# Altium schematic symbol library hearing_aid.SchLib: 33 symbols
Pins are listed as number, name and electrical type; pins without a type are passive.

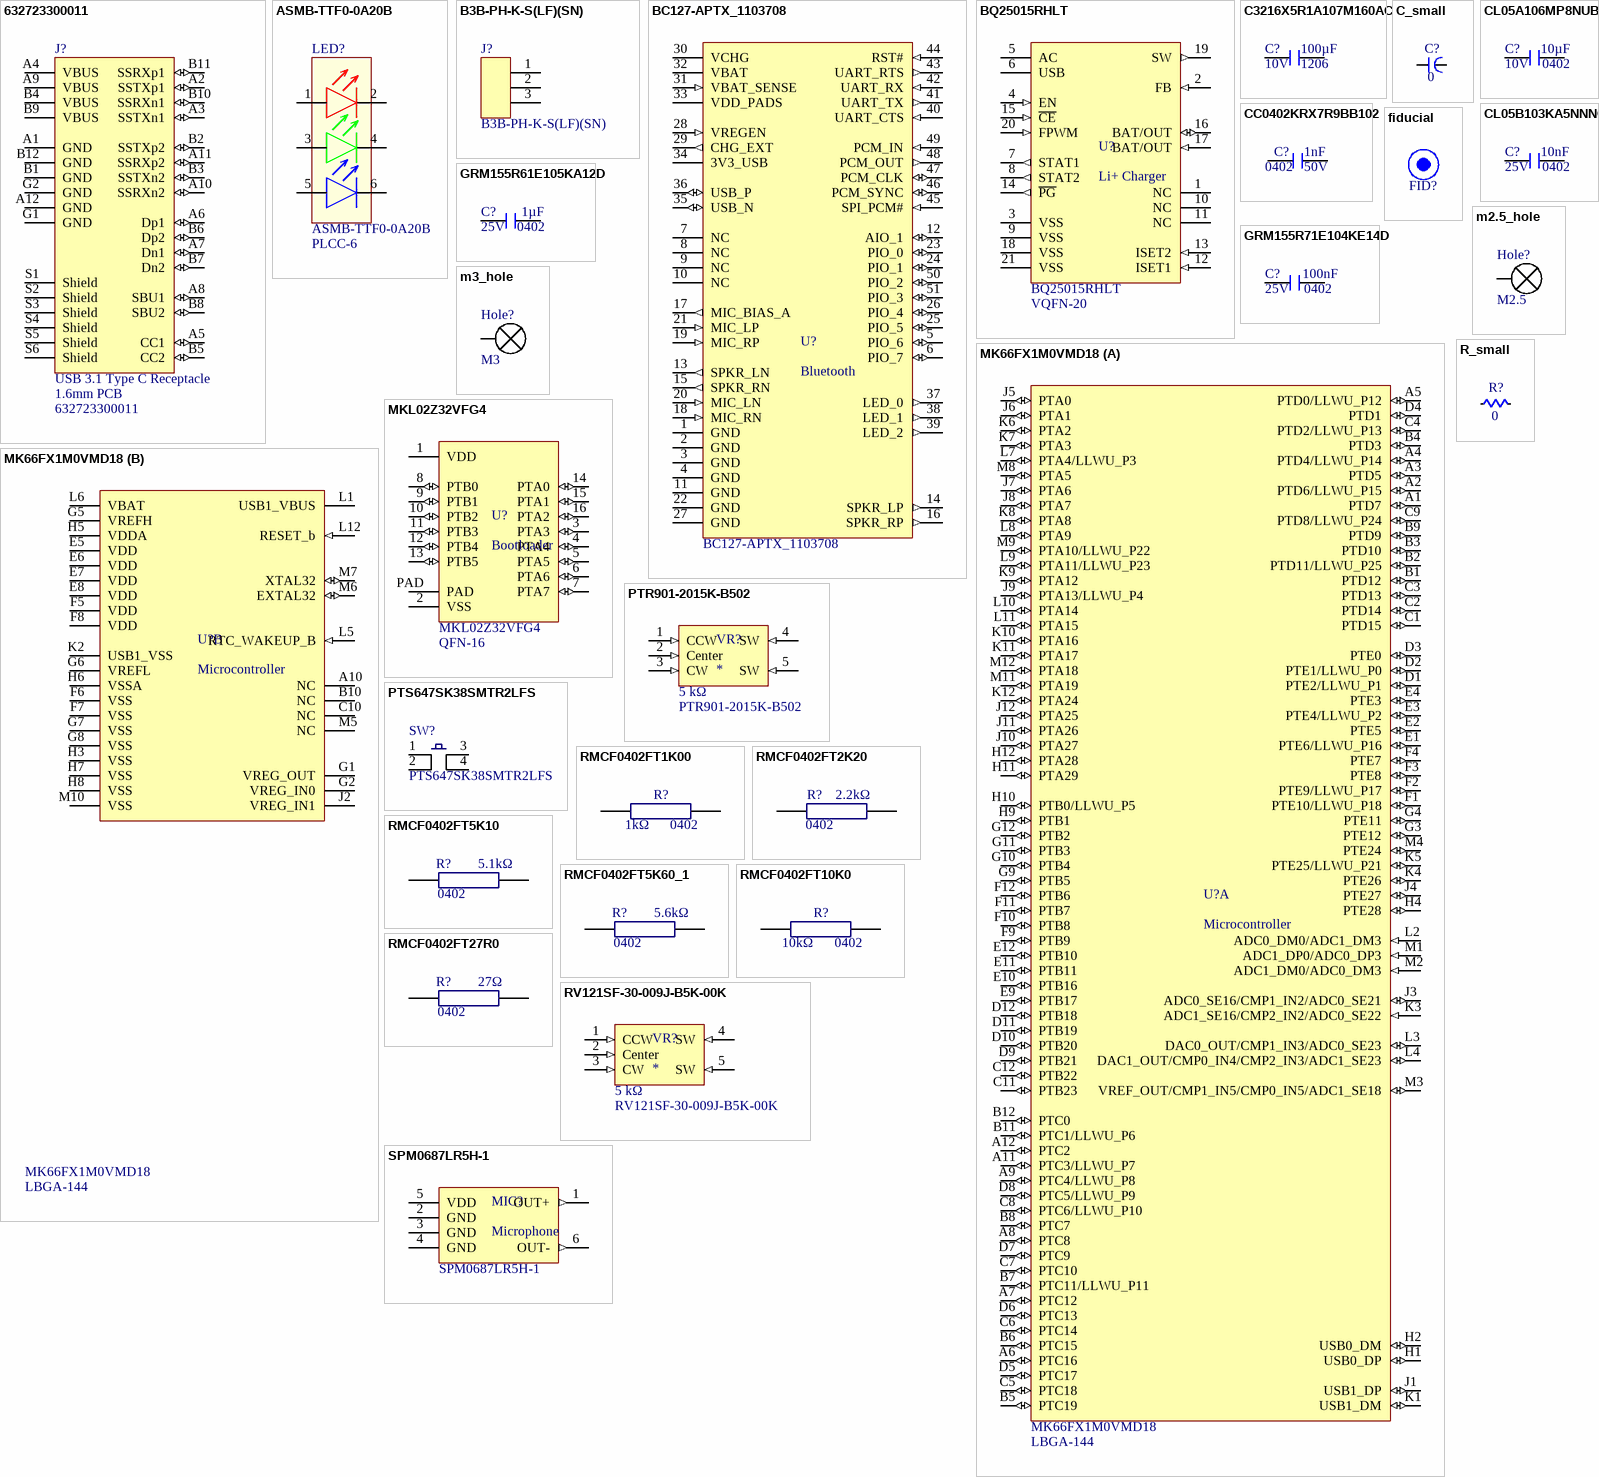
[diagram p0: symbols 632723300011 to SPM0687LR5H-1]

## 632723300011
designator J?, comment USB 3.1 Type C Receptacle  PCB Thickness: 1.6mm PCB  Manufacturer Part Number: 632723300011
USB-C jack; Manufacturer: Wurth Electronics; Number of Contacts: 24; Supplier 1: Digi-Key; Stock 1: 18753; Pricing 1: 1=4.1, 10=3.8, 50=3.2, 100=2.95 (USD); Mount: Surface Mount,Through Hole; Packaging: Tape and Reel; Connector Type: USB; Gender: Receptacle; ComponentLink1URL: https://www.mouser.com/ds/2/445/632723x00011-782157.pdf?src-supplier=Mouser; ComponentLink1Description: https://www.mouser.com/ds/2/445/632723x00011-782157.pdf?src-supplier=Mouser; ComponentLink2URL: https://katalog.we-online.de/em/datasheet/632723x00011.pdf?src-supplier=Digi-Key; ComponentLink2Description: https://katalog.we-online.de/em/datasheet/632723x00011.pdf?src-supplier=Digi-Key; Supplier Part Number 1: 732-9618-1-ND
footprint 632723300011 (USB 3.1 Type C Receptacle Horizontal THR)
pins: A1 GND (power), A2 SSTXp1 (io), A3 SSTXn1 (io), A4 VBUS (power), A5 CC1 (io), A6 Dp1 (io), A7 Dn1 (io), A8 SBU1 (io), A9 VBUS (power), A10 SSRXn2 (io), A11 SSRXp2 (io), A12 GND (power), B1 GND (power), B2 SSTXp2 (io), B3 SSTXn2 (io), B4 VBUS (power), B5 CC2 (io), B6 Dp2 (io), B7 Dn2 (io), B8 SBU2 (io), B9 VBUS (power), B10 SSRXn1 (io), B11 SSRXp1 (io), B12 GND (power), G1 GND (power), G2 GND (power), S1 Shield, S2 Shield, S3 Shield, S4 Shield, S5 Shield, S6 Shield

## ASMB-TTF0-0A20B
designator LED?  Manufacturer Part Number: ASMB-TTF0-0A20B  Case/Package: PLCC-6  (hidden comment: *)
RGB LED; Manufacturer: Broadcom Avago; Color: Blue,Green,Red; Lens Style: Round,Flat; Lens Transparency: Diffused; Luminous Intensity: 410mcd; Forward Voltage: 2.9V; Test Current: 20mA; Viewing Angle: 110°; Dominant Wavelength: 471nm; Supplier 1: Digi-Key; RoHS: Yes; Category: LEDs; Stock 1: 27651; Pricing 1: 1=0.55000, 10=0.33900, 100=0.19500, 1000=0.15264 (USD); Mount: Surface Mount; Number of Pins: 6; Packaging: Cut Tape; Length: 3.7mm; Width: 3.5mm; Height: 3mm; RoHS Compliant: Yes; ComponentLink1URL: https://media.digikey.com/pdf/Data%20Sheets/Avago%20PDFs/ASMB-TTF0-0A20B.pdf?src-supplier=Digi-Key; ComponentLink1Description: https://media.digikey.com/pdf/Data%20Sheets/Avago%20PDFs/ASMB-TTF0-0A20B.pdf?src-supplier=Digi-Key; ComponentLink2URL: http://www.farnell.com/datasheets/2608170.pdf?src-supplier=Farnell; ComponentLink2Description: http://www.farnell.com/datasheets/2608170.pdf?src-supplier=Farnell; ComponentLink3URL: http://www.farnell.com/datasheets/2608170.pdf?src-supplier=Newark; ComponentLink3Description: http://www.farnell.com/datasheets/2608170.pdf?src-supplier=Newark; Supplier Part Number 1: 516-3908-1-ND; Supplier 2: Digi-Key; Supplier Part Number 2: 516-3909-1-ND
footprint PLCC-6
pins: 1, 2, 3, 4, 5, 6

## B3B-PH-K-S(LF)(SN)
designator J?  Manufacturer Part Number: B3B-PH-K-S(LF)(SN)  (hidden comment: *)
3-Pin, 2 mm, PH Series through-hole connector; Manufacturer: JST; Supplier 1: Digi-Key; Supplier Part Number 1: 455-1705-ND; RoHS: Yes; Category: Headers and Wire Housings; Stock 1: 26216; Pricing 1: 1=0.19000, 10=0.18200, 100=0.12620, 500=0.10676, 1000=0.08736, 5000=0.07765, 10000=0.07037 (USD); ComponentLink1URL: https://datasheet.ciiva.com/11746/0900766b80826550-11746939.pdf?src-supplier=RSComponents; ComponentLink1Description: https://datasheet.ciiva.com/11746/0900766b80826550-11746939.pdf?src-supplier=RSComponents; ComponentLink2URL: https://datasheet.ciiva.com/6747/80560-6747401.pdf?src-supplier=Newark; ComponentLink2Description: https://datasheet.ciiva.com/6747/80560-6747401.pdf?src-supplier=Newark; ComponentLink3URL: https://datasheet.ciiva.com/712/eph-712455.pdf?src-supplier=Digi-Key; ComponentLink3Description: https://datasheet.ciiva.com/712/eph-712455.pdf?src-supplier=Digi-Key; ComponentLink4URL: https://datasheet.ciiva.com/16200/eph-16200926.pdf?src-supplier=Future+Electronics; ComponentLink4Description: https://datasheet.ciiva.com/16200/eph-16200926.pdf?src-supplier=Future+Electronics; ComponentLink5URL: https://datasheet.ciiva.com/26894/getdatasheetpartid-448114-26894774.pdf?src-supplier=Verical; ComponentLink5Description: https://datasheet.ciiva.com/26894/getdatasheetpartid-448114-26894774.pdf?src-supplier=Verical; ComponentLink6URL: https://datasheet.ciiva.com/26924/getdatasheetpartid-651387-26924028.pdf?src-supplier=Verical; ComponentLink6Description: https://datasheet.ciiva.com/26924/getdatasheetpartid-651387-26924028.pdf?src-supplier=Verical; ComponentLink7URL: https://datasheet.ciiva.com/43491/741202-da-01-en-stiftleiste-gerade-3-pol-rm2-0-43491962.pdf?src-supplier=Conrad; ComponentLink7Description: https://datasheet.ciiva.com/43491/741202-da-01-en-stiftleiste-gerade-3-pol-rm2-0-43491962.pdf?src-supplier=Conrad
footprint B3B-PH-K-S(LF)(SN) (JST connector)
pins: 1, 2, 3

## BC127-APTX_1103708
designator U?, comment Bluetooth  Manufacturer Part Number: BC127-APTX_1103708
Bluetooth 4.2 Module with Integrated Antenna; Manufacturer: Sierra Wireless; Supplier 1: Digi-Key; Stock 1: 1671; Pricing 1: 1=35.82, 10=33.066, 25=30.3104, 100=28.0142, 250=26.6365, 500=25.05 (USD); Supplier Part Number 1: 1645-1042-1-ND
footprint BC127 (LGA, 51-Leads, Body 18x11.8mm, Pitch 0.8mm)
pins: 1 GND (power), 2 GND (power), 3 GND (power), 4 GND (power), 5 PIO_6 (io), 6 PIO_7 (io), 7 NC, 8 NC, 9 NC, 10 NC, 11 GND (power), 12 AIO_1 (io), 13 SPKR_LN (out), 14 SPKR_LP (out), 15 SPKR_RN (out), 16 SPKR_RP (out), 17 MIC_BIAS_A (out), 18 MIC_RN (in), 19 MIC_RP (in), 20 MIC_LN (in), 21 MIC_LP (in), 22 GND (power), 23 PIO_0 (io), 24 PIO_1 (io), 25 PIO_5 (io), 26 PIO_4 (io), 27 GND (power), 28 VREGEN (in), 29 CHG_EXT (out), 30 VCHG (power), 31 VBAT_SENSE (in), 32 VBAT (power), 33 VDD_PADS (power), 34 3V3_USB (power), 35 USB_N (io), 36 USB_P (io), 37 LED_0 (out), 38 LED_1 (out), 39 LED_2 (out), 40 UART_CTS (in), 41 UART_TX (out), 42 UART_RX (in), 43 UART_RTS (out), 44 RST# (in), 45 SPI_PCM# (in), 46 PCM_SYNC (io), 47 PCM_CLK (io), 48 PCM_OUT (out), 49 PCM_IN (in), 50 PIO_2 (io), 51 PIO_3 (io)

## BQ25015RHLT
designator U?, comment Li+ Charger  Manufacturer Part Number: BQ25015RHLT  Package: VQFN-20
Li+ Battery Chager, VQFN-20; Manufacturer: Texas Instruments; Output Voltage: 700mV; Output Current: 500mA; Number of Cells: 1; Max Supply Voltage: 6.5V; Min Supply Voltage: 4.35V; Min Input Voltage: 4.5V; Switching Frequency: 1MHz; Supplier 1: Digi-Key; Stock 1: 62; Pricing 1: 1=4.78, 10=4.289, 25=4.0544, 100=3.5139 (USD); Case/Package: VQFN; Number of Pins: 20; Weight: 0.001668oz; Contact Plating: Gold; Min Operating Temperature: -40°C; Max Operating Temperature: 125°C; Package Quantity: 1; Series: -; Packaging: Tape and Reel; Max Output Current: 500mA; Max Charge Current: 500mA; Length: 4.5mm; Width: 3.5mm; Height: 0.9mm; Radiation Hardening: No; REACH SVHC: No SVHC; Lead Free: Lead Free; RoHS Compliant: Yes; ComponentLink1URL: http://www.ti.com/lit/ds/symlink/bq25017.pdf?src-supplier=Farnell; ComponentLink1Description: http://www.ti.com/lit/ds/symlink/bq25017.pdf?src-supplier=Farnell; ComponentLink2URL: http://www.ti.com/lit/ds/symlink/bq25017.pdf?src-supplier=Element14; ComponentLink2Description: http://www.ti.com/lit/ds/symlink/bq25017.pdf?src-supplier=Element14; ComponentLink3URL: http://www.ti.com/general/docs/suppproductinfo.tsp?distId=10&amp;gotoUrl=http%3A%2F%2Fwww.ti.com%2Flit%2Fgpn%2Fbq25015&src-supplier=Digi-Key; ComponentLink3Description: http://www.ti.com/general/docs/suppproductinfo.tsp?distId=10&amp;gotoUrl=http%3A%2F%2Fwww.ti.com%2Flit%2Fgpn%2Fbq25015&src-supplier=Digi-Key; ComponentLink4URL: https://media.digikey.com/pdf/Data%20Sheets/Texas%20Instruments%20PDFs/BQ25015,17.pdf?src-supplier=Digi-Key; ComponentLink4Description: https://media.digikey.com/pdf/Data%20Sheets/Texas%20Instruments%20PDFs/BQ25015,17.pdf?src-supplier=Digi-Key; ComponentLink5URL: http://www.ti.com/lit/gpn/bq25015?src-supplier=Mouser; ComponentLink5Description: http://www.ti.com/lit/gpn/bq25015?src-supplier=Mouser; ComponentLink6URL: http://www.ti.com/general/docs/lit/getliterature.tsp?genericPartNumber=BQ25017&&fileType=pdf&src-supplier=Avnet; ComponentLink6Description: http://www.ti.com/general/docs/lit/getliterature.tsp?genericPartNumber=BQ25017&&fileType=pdf&src-supplier=Avnet; Supplier Part Number 1: 296-32034-1-ND
footprint VQFN-20 (VQFN, 24-Leads, Body 3.50x4.50mm, Pitch 0.50mm, Thermal Pad 2.05x3.05mm, IPC Medium Density)
pins: 1 NC, 2 FB (in), 3 VSS (power), 4 EN (in), 5 AC (power), 6 USB (power), 7 STAT1 (out), 8 STAT2 (out), 9 VSS (power), 10 NC, 11 NC, 12 ISET1 (in), 13 ISET2 (in), 14 ~{PG} (out), 15 ~{CE} (in), 16 BAT/OUT (io), 17 BAT/OUT (in), 18 VSS (power), 19 SW (out), 20 FPWM (in), 21 VSS (power)

## C3216X5R1A107M160AC
designator C?  Case Code (Imperial): 1206  Capacitance: 100µF  Voltage: 10V  (hidden comment: *)
100 µF, 10 V, X5R, 1206 Chip capacitor; Manufacturer: TDK; Manufacturer Part Number: C3216X5R1A107M160AC; Dielectric Material: Ceramic; Tolerance: 20%; Supplier 1: Digi-Key; Supplier Part Number 1: 445-6007-1-ND; RoHS: Yes; Category: Ceramic Capacitors; Stock 1: 313539; Pricing 1: 1=1.35000, 10=1.07000, 50=0.92700, 100=0.80210, 500=0.60606, 1000=0.53476 (USD); Mount: Surface Mount; Case/Package: 1206; Case Code (Metric): 3216; Weight: 0.000571oz; Min Operating Temperature: -55°C; Max Operating Temperature: 85°C; Packaging: Tape and Reel; Package Quantity: 1; Voltage Rating: 10V; Voltage Rating (DC): 10V; Dielectric: X5R; Termination: SMD/SMT; Resistor Type: Ceramic; Series: C; Construction: Flat; Length: 3.2mm; Width: 1.6mm; Height: 1.6mm; Thickness: 0.075inch; Depth: 1.6mm; Radiation Hardening: No; REACH SVHC: No SVHC; Lead Free: Lead Free; RoHS Compliant: Yes; ComponentLink1URL: https://datasheet.ciiva.com/24216/c3216x5r1a107m160ac-265050-24216592.pdf?src-supplier=Mouser; ComponentLink1Description: https://datasheet.ciiva.com/24216/c3216x5r1a107m160ac-265050-24216592.pdf?src-supplier=Mouser; ComponentLink2URL: https://datasheet.ciiva.com/7975/1796654-7975125.pdf?src-supplier=Element14; ComponentLink2Description: https://datasheet.ciiva.com/7975/1796654-7975125.pdf?src-supplier=Element14; ComponentLink3URL: https://datasheet.ciiva.com/16482/e412-c-16482549.pdf?src-supplier=Future+Electronics; ComponentLink3Description: https://datasheet.ciiva.com/16482/e412-c-16482549.pdf?src-supplier=Future+Electronics; ComponentLink4URL: https://datasheet.ciiva.com/48671/e412-c-48671366.pdf?src-supplier=Avnet; ComponentLink4Description: https://datasheet.ciiva.com/48671/e412-c-48671366.pdf?src-supplier=Avnet; ComponentLink5URL: https://datasheet.ciiva.com/6284/tdkmlcccaprange-6284584.pdf?src-supplier=Digi-Key; ComponentLink5Description: https://datasheet.ciiva.com/6284/tdkmlcccaprange-6284584.pdf?src-supplier=Digi-Key; ComponentLink6URL: https://datasheet.ciiva.com/6284/tdkmlcccaprange-6284586.pdf?src-supplier=Digi-Key; ComponentLink6Description: https://datasheet.ciiva.com/6284/tdkmlcccaprange-6284586.pdf?src-supplier=Digi-Key; ComponentLink7URL: https://datasheet.ciiva.com/17487/e412-c-17487274.pdf?src-supplier=Avnet+Europe; ComponentLink7Description: https://datasheet.ciiva.com/17487/e412-c-17487274.pdf?src-supplier=Avnet+Europe; ComponentLink8URL: https://datasheet.ciiva.com/28620/mlcc-commercial-general-en-28620362.pdf?src-supplier=Element14; ComponentLink8Description: https://datasheet.ciiva.com/28620/mlcc-commercial-general-en-28620362.pdf?src-supplier=Element14; ComponentLink9URL: https://datasheet.ciiva.com/22725/1913358-22725579.pdf?src-supplier=Element14; ComponentLink9Description: https://datasheet.ciiva.com/22725/1913358-22725579.pdf?src-supplier=Element14; ComponentLink10URL: https://datasheet.ciiva.com/6284/tdkmlcccaprange-6284588.pdf?src-supplier=Digi-Key; ComponentLink10Description: https://datasheet.ciiva.com/6284/tdkmlcccaprange-6284588.pdf?src-supplier=Digi-Key; ComponentLink11URL: https://datasheet.ciiva.com/22694/1796654-22694157.pdf?src-supplier=Element14; ComponentLink11Description: https://datasheet.ciiva.com/22694/1796654-22694157.pdf?src-supplier=Element14
footprint 1206_capacitor (Chip Capacitor, 2-Leads, Body 3.20x1.60mm, IPC Medium Density)
pins: 1, 2

## C_small
designator C?  value 0  (hidden comment: *)
pins: 1, 2

## CC0402KRX7R9BB102
designator C?  Case/Package: 0402  Capacitance: 1nF  Voltage Rating: 50V  (hidden comment: *)
1 nF, 50 V, X7R, 0402 Chip capacitor; Manufacturer: Yageo; Manufacturer Part Number: CC0402KRX7R9BB102; Dielectric Material: Ceramic; Tolerance: 10%; Insulation Resistance: 100GR; Supplier 1: Digi-Key; Stock 1: 1726463; Pricing 1: 1=0.1, 10=0.019, 50=0.0104, 100=0.0085, 500=0.006, 1000=0.0048, 2500=0.0043, 5000=0.004 (USD); Mount: Surface Mount; Case Code (Metric): 1005; Case Code (Imperial): 0402; Min Operating Temperature: -55°C; Max Operating Temperature: 125°C; Packaging: Tape and Reel; Series: CC; Length: 0.039inch; Width: 0.02inch; Thickness: 0.022inch; RoHS Compliant: Yes; Lead Free: Lead Free; Halogen Free: Halogen Free; ComponentLink1URL: http://www.farnell.com/datasheets/1489800.pdf?src-supplier=Element14; ComponentLink1Description: http://www.farnell.com/datasheets/1489800.pdf?src-supplier=Element14; ComponentLink2URL: http://www.yageo.com/documents/recent/UPY-GPHC_X7R_6.3V-to-50V_18.pdf?src-supplier=Digi-Key; ComponentLink2Description: http://www.yageo.com/documents/recent/UPY-GPHC_X7R_6.3V-to-50V_18.pdf?src-supplier=Digi-Key; ComponentLink3URL: http://www.mouser.com/ds/2/447/Yageo_UPY-GP_NP0_16V-to-50V_9-358835.pdf?src-supplier=Mouser; ComponentLink3Description: http://www.mouser.com/ds/2/447/Yageo_UPY-GP_NP0_16V-to-50V_9-358835.pdf?src-supplier=Mouser; ComponentLink4URL: https://www.verical.com/server-webapp/html/getDatasheet?partID=403474&src-supplier=Verical; ComponentLink4Description: https://www.verical.com/server-webapp/html/getDatasheet?partID=403474&src-supplier=Verical; ComponentLink5URL: http://www.yageo.com/documents/recent/UPY-GPHC_X7R_6.3V-to-50V_8.pdf?src-supplier=Avnet+Europe; ComponentLink5Description: http://www.yageo.com/documents/recent/UPY-GPHC_X7R_6.3V-to-50V_8.pdf?src-supplier=Avnet+Europe; Supplier Part Number 1: 311-1036-1-ND
footprint 0402_capacitor (0402 chip capacitor)
pins: 1, 2

## CL05A106MP8NUB8
designator C?  Capacitance: 10µF  Voltage Rating: 10V  Case Code (Imperial): 0402  (hidden comment: *)
10 µF, 10 V, X5R, 0402 Chip capacitor; Manufacturer: Samsung; Manufacturer Part Number: CL05A106MP8NUB8; Tolerance: 20%; Supplier 1: Digi-Key; Supplier Part Number 1: 1276-6830-1-ND; RoHS: Yes; Category: Ceramic Capacitors; Stock 1: 740658; Pricing 1: 1=0.36000, 10=0.25300, 50=0.17720, 100=0.15180, 500=0.11384, 1000=0.09614, 2500=0.09108 (USD); Mount: Surface Mount; Case/Package: 0402; Case Code (Metric): 1005; Min Operating Temperature: -55°C; Max Operating Temperature: 85°C; Packaging: Tape and Reel; Length: 0.039inch; Width: 0.02inch; Thickness: 0.035inch; RoHS Compliant: Yes; ComponentLink1URL: http://www.samsungsem.com/kr/support/product-search/mlcc/CL05A106MP8NUB8.jsp?src-supplier=Digi-Key; ComponentLink1Description: http://www.samsungsem.com/kr/support/product-search/mlcc/CL05A106MP8NUB8.jsp?src-supplier=Digi-Key
footprint 0402_capacitor (0402 chip capacitor)
pins: 1, 2

## CL05B103KA5NNNC
designator C?  Capacitance: 10nF  Voltage Rating: 25V  Case Code (Imperial): 0402  (hidden comment: *)
10 nF, 25 V, X7R, 0402 Chip capacitor; Manufacturer: Samsung; Manufacturer Part Number: CL05B103KA5NNNC; Tolerance: 10%; Supplier 1: Digi-Key; Supplier Part Number 1: 1276-1057-2-ND; RoHS: Yes; Category: Ceramic Capacitors; Stock 1: 2318300; Pricing 1: 10000=0.00328, 20000=0.00312, 30000=0.00297, 50000=0.00266, 100000=0.00215, 250000=0.00195 (USD); Mount: Surface Mount; Case/Package: 0402; Case Code (Metric): 1005; Contact Plating: Tin; Min Operating Temperature: -55°C; Max Operating Temperature: 125°C; Packaging: Tape and Reel; Package Quantity: 1; Dielectric: X7R; Series: CL; Construction: Flat; Length: 1mm; Width: 0.02inch; Height: 0.5mm; Thickness: 0.022inch; Depth: 0.5mm; Radiation Hardening: No; RoHS Compliant: Yes; ComponentLink1URL: https://datasheet.ciiva.com/15195/getdatasheetpartid-358612-15195635.pdf?src-supplier=Verical; ComponentLink1Description: https://datasheet.ciiva.com/15195/getdatasheetpartid-358612-15195635.pdf?src-supplier=Verical; ComponentLink2URL: https://datasheet.ciiva.com/16740/cl05b104kq5nnnc-16740683.pdf?src-supplier=Future+Electronics; ComponentLink2Description: https://datasheet.ciiva.com/16740/cl05b104kq5nnnc-16740683.pdf?src-supplier=Future+Electronics
footprint 0402_capacitor (0402 chip capacitor)
pins: 1, 2

## fiducial
designator FID?, comment FID?  (value not drawn)  (no BOM)
Pick and place fiducial
footprint fiducial

## GRM155R61E105KA12D
designator C?  Size Code: 0402  Capacitance: 1µF  Voltage: 25V  (hidden comment: *)
1 µF, 25 V, X5R, 0402 Chip capacitor; Manufacturer: Murata; Manufacturer Part Number: GRM155R61E105KA12D; Dielectric Material: Ceramic; Multilayer: Yes; Negative Tolerance: 10%; Supplier 1: Digi-Key; Supplier Part Number 1: 490-10017-1-ND; RoHS: Yes; Category: Ceramic Capacitors; Stock 1: 145965; Pricing 1: 1=0.11000, 10=0.08300, 50=0.04560, 100=0.03720, 500=0.02656, 1000=0.02087, 2500=0.01898, 5000=0.01746 (USD); Mount: Surface Mount; Number of Pins: 2; Package Shape: Rectangular; Terminal Finish: Nickel; Min Operating Temperature: -55°C; Max Operating Temperature: 85°C; JESD-609 Code: e3; Capacitor Type: Ceramic; Package Style: SMTMeter; Packaging: Tape and Reel; Positive Tolerance: 10%; Temperature Characteristics Code: X5R; Termination: Wraparound; Length: 1mm; Width: 0.5mm; Height: 0.5mm; REACH SVHC: Yes; RoHS Compliant: Yes; ComponentLink1URL: https://datasheet.ciiva.com:443/pdfs/VipMasterIC/IC/MURE/MURE-S-A0004362469/MURE-S-A0004364524-1.pdf?src-supplier=IHS+Markit; ComponentLink1Description: https://datasheet.ciiva.com:443/pdfs/VipMasterIC/IC/MURE/MURE-S-A0004362469/MURE-S-A0004364524-1.pdf?src-supplier=IHS+Markit; ComponentLink2URL: https://datasheet.ciiva.com/7719/1666664-7719006.pdf?src-supplier=Element14; ComponentLink2Description: https://datasheet.ciiva.com/7719/1666664-7719006.pdf?src-supplier=Element14; ComponentLink3URL: https://datasheet.ciiva.com/22732/1666664-22732122.pdf?src-supplier=Element14; ComponentLink3Description: https://datasheet.ciiva.com/22732/1666664-22732122.pdf?src-supplier=Element14
footprint 0402_capacitor (0402 chip capacitor)
pins: 1, 2

## GRM155R71E104KE14D
designator C?  Case Code (Imperial): 0402  Voltage: 25V  Capacitance: 100nF  (hidden comment: *)
100 nF, 25 V, X7R, 0402 Chip capacitor; Manufacturer: Murata; Manufacturer Part Number: GRM155R71E104KE14D; Dielectric Material: Ceramic; Tolerance: 10%; Supplier 1: Digi-Key; Supplier Part Number 1: 490-10698-1-ND; RoHS: Yes; Category: Ceramic Capacitors; Pricing 1: 1=0.10000, 10=0.02700, 50=0.01460, 100=0.01190, 500=0.00848, 1000=0.00666, 2500=0.00605, 5000=0.00557 (USD); Mount: Surface Mount; Case/Package: 0402; Case Code (Metric): 1005; Weight: 0.000212oz; Min Operating Temperature: -55°C; Max Operating Temperature: 125°C; Packaging: Tape and Reel; Voltage Rating: 25V; Dielectric: X7R; Termination: SMD/SMT; Resistor Type: Ceramic; Voltage Rating (DC): 25V; Package Quantity: 10000; Length: 1mm; Width: 0.02inch; Height: 0.5mm; Thickness: 0.022inch; Depth: 0.5mm; REACH SVHC: Unknown; Lead Free: Lead Free; RoHS Compliant: Yes; ComponentLink1URL: http://www.farnell.com/datasheets/1872206.pdf?src-supplier=Farnell; ComponentLink1Description: http://www.farnell.com/datasheets/1872206.pdf?src-supplier=Farnell; ComponentLink2URL: http://components.arrow.com/part/dataview/0323_06361249?src-supplier=Arrow+Europe; ComponentLink2Description: http://components.arrow.com/part/dataview/0323_06361249?src-supplier=Arrow+Europe; ComponentLink3URL: http://uk.rs-online.com/webdocs/144c/0900766b8144c113.pdf?src-supplier=RSComponents; ComponentLink3Description: http://uk.rs-online.com/webdocs/144c/0900766b8144c113.pdf?src-supplier=RSComponents; ComponentLink4URL: http://www.farnell.com/datasheets/2048008.pdf?src-supplier=Farnell; ComponentLink4Description: http://www.farnell.com/datasheets/2048008.pdf?src-supplier=Farnell; ComponentLink5URL: http://www.mouser.com/ds/2/281/c02e-2905.pdf?src-supplier=Mouser; ComponentLink5Description: http://www.mouser.com/ds/2/281/c02e-2905.pdf?src-supplier=Mouser; ComponentLink6URL: http://www.farnell.com/datasheets/2048008.pdf?src-supplier=Newark; ComponentLink6Description: http://www.farnell.com/datasheets/2048008.pdf?src-supplier=Newark; ComponentLink7URL: https://search.murata.co.jp/Ceramy/image/img/A01X/G101/ENG/GRM155R71E104KE14-01.pdf?src-supplier=Digi-Key; ComponentLink7Description: https://search.murata.co.jp/Ceramy/image/img/A01X/G101/ENG/GRM155R71E104KE14-01.pdf?src-supplier=Digi-Key; ComponentLink8URL: http://www.farnell.com/datasheets/2048008.pdf?src-supplier=Element14; ComponentLink8Description: http://www.farnell.com/datasheets/2048008.pdf?src-supplier=Element14; ComponentLink9URL: http://psearch.en.murata.com/capacitor/product/GRM155R71E104KE14%23.pdf?src-supplier=Avnet; ComponentLink9Description: http://psearch.en.murata.com/capacitor/product/GRM155R71E104KE14%23.pdf?src-supplier=Avnet
footprint 0402_capacitor (0402 chip capacitor)
pins: 1, 2

## m2.5_hole
designator Hole?, comment M2.5  (no BOM)
M2.5 clearance hole
footprint m2.5_hole (M2.5 hole, with via stitching)
pins: 1

## m3_hole
designator Hole?, comment M3  (no BOM)
M3 clearance hole
footprint m3_hole (M3 hole, with via stitching)
pins: 1

## MK66FX1M0VMD18
designator U?, comment Microcontroller  Manufacturer Part Number: MK66FX1M0VMD18  Package: LBGA-144
ARM Cortex-M4 microcontroller; Manufacturer: NXP Freescale; Supplier 1: Digi-Key; Stock 1: 0; Pricing 1: 1=23.34, 10=23.108 (USD); RoHS Compliant: Yes; ComponentLink1URL: http://www.mouser.com/ds/2/302/K66P144M180SF5V2-907544.pdf?src-supplier=Mouser; ComponentLink1Description: http://www.mouser.com/ds/2/302/K66P144M180SF5V2-907544.pdf?src-supplier=Mouser; ComponentLink2URL: https://www.nxp.com/docs/en/package-information/98ASA00222D.pdf?src-supplier=Digi-Key; ComponentLink2Description: https://www.nxp.com/docs/en/package-information/98ASA00222D.pdf?src-supplier=Digi-Key; ComponentLink3URL: http://www.farnell.com/datasheets/2292635.pdf?src-supplier=Farnell; ComponentLink3Description: http://www.farnell.com/datasheets/2292635.pdf?src-supplier=Farnell; ComponentLink4URL: http://www.farnell.com/datasheets/2292635.pdf?src-supplier=Newark; ComponentLink4Description: http://www.farnell.com/datasheets/2292635.pdf?src-supplier=Newark; Supplier Part Number 1: 568-13335-ND
footprint BGA-144 (BGA, 144-Leads, Body 13.00x13.00mmx1.70mm, Pitch 1.00mm)
part A pins: A1 PTD7 (io), A2 PTD6/LLWU_P15 (io), A3 PTD5 (io), A4 PTD4/LLWU_P14 (io), A5 PTD0/LLWU_P12 (io), A6 PTC16 (io), A7 PTC12 (io), A8 PTC8 (io), A9 PTC4/LLWU_P8 (io), A11 PTC3/LLWU_P7 (io), A12 PTC2 (io), B1 PTD12 (io), B2 PTD11/LLWU_P25 (io), B3 PTD10 (io), B4 PTD3 (io), B5 PTC19 (io), B6 PTC15 (io), B7 PTC11/LLWU_P11 (io), B8 PTC7 (io), B9 PTD9 (io), B11 PTC1/LLWU_P6 (io), B12 PTC0 (io), C1 PTD15 (io), C2 PTD14 (io), C3 PTD13 (io), C4 PTD2/LLWU_P13 (io), C5 PTC18 (io), C6 PTC14 (io), C7 PTC10 (io), C8 PTC6/LLWU_P10 (io), C9 PTD8/LLWU_P24 (io), C11 PTB23 (io), C12 PTB22 (io), D1 PTE2/LLWU_P1 (io), D2 PTE1/LLWU_P0 (io), D3 PTE0 (io), D4 PTD1 (io), D5 PTC17 (io), D6 PTC13 (io), D7 PTC9 (io), D8 PTC5/LLWU_P9 (io), D9 PTB21 (io), D10 PTB20 (io), D11 PTB19 (io), D12 PTB18 (io), E1 PTE6/LLWU_P16 (io), E2 PTE5 (io), E3 PTE4/LLWU_P2 (io), E4 PTE3 (io), E9 PTB17 (io), E10 PTB16 (io), E11 PTB11 (io), E12 PTB10 (io), F1 PTE10/LLWU_P18 (io), F2 PTE9/LLWU_P17 (io), F3 PTE8 (io), F4 PTE7 (io), F9 PTB9 (io), F10 PTB8 (io), F11 PTB7 (io), F12 PTB6 (io), G3 PTE12 (io), G4 PTE11 (io), G9 PTB5 (io), G10 PTB4 (io), G11 PTB3 (io), G12 PTB2 (io), H1 USB0_DP (io), H2 USB0_DM (io), H4 PTE28 (io), H9 PTB1 (io), H10 PTB0/LLWU_P5 (io), H11 PTA29 (io), H12 PTA28 (io), J1 USB1_DP (io), J3 ADC0_SE16/CMP1_IN2/ADC0_SE21 (io), J4 PTE27 (io), J5 PTA0 (io), J6 PTA1 (io), J7 PTA6 (io), J8 PTA7 (io), J9 PTA13/LLWU_P4 (io), J10 PTA27 (io), J11 PTA26 (io), J12 PTA25 (io), K1 USB1_DM (io), K3 ADC1_SE16/CMP2_IN2/ADC0_SE22 (in), K4 PTE26 (io), K5 PTE25/LLWU_P21 (io), K6 PTA2 (io), K7 PTA3 (io), K8 PTA8 (io), K9 PTA12 (io), K10 PTA16 (io), K11 PTA17 (io), K12 PTA24 (io), L2 ADC0_DM0/ADC1_DM3 (in), L3 DAC0_OUT/CMP1_IN3/ADC0_SE23 (io), L4 DAC1_OUT/CMP0_IN4/CMP2_IN3/ADC1_SE23 (io), L7 PTA4/LLWU_P3 (io), L8 PTA9 (io), L9 PTA11/LLWU_P23 (io), L10 PTA14 (io), L11 PTA15 (io), M1 ADC1_DP0/ADC0_DP3 (in), M2 ADC1_DM0/ADC0_DM3 (in), M3 VREF_OUT/CMP1_IN5/CMP0_IN5/ADC1_SE18 (io), M4 PTE24 (io), M8 PTA5 (io), M9 PTA10/LLWU_P22 (io), M11 PTA19 (io), M12 PTA18 (io)
part B pins: A10 NC, B10 NC, C10 NC, E5 VDD (power), E6 VDD (power), E7 VDD (power), E8 VDD (power), F5 VDD (power), F6 VSS (power), F7 VSS (power), F8 VDD (power), G1 VREG_OUT (power), G2 VREG_IN0 (power), G5 VREFH (power), G6 VREFL (power), G7 VSS (power), G8 VSS (power), H3 VSS (power), H5 VDDA (power), H6 VSSA (power), H7 VSS (power), H8 VSS (power), J2 VREG_IN1 (power), K2 USB1_VSS (power), L1 USB1_VBUS (power), L5 RTC_WAKEUP_B (in), L6 VBAT (power), L12 RESET_b (in), M5 NC, M6 EXTAL32 (io), M7 XTAL32 (io), M10 VSS (power)

## MKL02Z32VFG4
designator U?, comment Bootloader  Manufacturer Part Number: MKL02Z32VFG4  Package: QFN-16
ARM Cortex-M0+; Manufacturer: NXP Freescale; Max Supply Voltage: 3.6V; RAM Size: 4KB; Number of USB Channels: 1; Number of PWM Channels: 2; Interface: I2C,SPI,UART,USART; Min Supply Voltage: 1.71V; Frequency: 48MHz; Number of I/Os: 14; Oscillator Type: Internal; Data Bus Width: 32b; Memory Type: FLASH; Memory Size: 32KB; Peripherals: Brown-out Detect/Reset,POR,PWM,WDT,LVD; Supplier 1: Digi-Key; Stock 1: 0; Pricing 1: 1=3.31, 10=2.584, 80=2.332 (USD); Mount: Surface Mount; Case/Package: QFN; Number of Pins: 16; Weight: 0.000564oz; Min Operating Temperature: -40°C; Max Operating Temperature: 105°C; Packaging: Tray; Number of Timers/Counters: 2; Package Quantity: 490; Number of ADC Channels: 1; Number of UART Channels: 1; Max Frequency: 48MHz; Number of SPI Channels: 1; Number of I2C Channels: 2; Core Architecture: ARM; Length: 3mm; Width: 3mm; Height: 0.75mm; REACH SVHC: No SVHC; RoHS Compliant: Yes; ComponentLink1URL: http://www.farnell.com/datasheets/1898381.pdf?src-supplier=Element14; ComponentLink1Description: http://www.farnell.com/datasheets/1898381.pdf?src-supplier=Element14; ComponentLink2URL: http://uk.rs-online.com/webdocs/12ba/0900766b812babaa.pdf?src-supplier=RSComponents; ComponentLink2Description: http://uk.rs-online.com/webdocs/12ba/0900766b812babaa.pdf?src-supplier=RSComponents; ComponentLink3URL: http://cache.freescale.com/files/32bit/doc/data_sheet/KL02P32M48SF0.pdf?src-supplier=Digi-Key; ComponentLink3Description: http://cache.freescale.com/files/32bit/doc/data_sheet/KL02P32M48SF0.pdf?src-supplier=Digi-Key; Supplier Part Number 1: MKL02Z32VFG4-ND
footprint QFN-16
pins: 1 VDD (power), 2 VSS (power), 3 PTA3 (io), 4 PTA4 (io), 5 PTA5 (io), 6 PTA6 (io), 7 PTA7 (io), 8 PTB0 (io), 9 PTB1 (io), 10 PTB2 (io), 11 PTB3 (io), 12 PTB4 (io), 13 PTB5 (io), 14 PTA0 (io), 15 PTA1 (io), 16 PTA2 (io), PAD

## PTR901-2015K-B502
designator VR?  Resistance: 5 kΩ  Manufacturer Part Number: PTR901-2015K-B502
5 kΩ Linear potentiomer with switch
footprint PTR901-2015K-B502 (Potentiometer with switch)
pins: 1 CCW (in), 2 Center (in), 3 CW (in), 4 SW (in), 5 SW (in)

## PTS647SK38SMTR2LFS
designator SW?  Manufacturer Part Number: PTS647SK38SMTR2LFS  (hidden comment: *)
Tactile switch, SPST; Manufacturer: ITT C&K; Mechanical Life: 100000Cycles; Illumination Type: Non-Illuminated; Switch Function: Off-Mom; Actuator Type: Standard; Operating Force: 250gf; Switch Travel: 0.25mm; Ratings: IP40; Supplier 1: Digi-Key; RoHS: No; Category: Tactile Switches; Stock 1: 68566; Pricing 1: 1=0.13000, 10=0.12700, 25=0.12080, 100=0.10970, 250=0.10308, 500=0.09432, 1000=0.07897 (USD); Mount: Surface Mount; Min Operating Temperature: -20°C; Max Operating Temperature: 70°C; Throw Configuration: SPST; Packaging: Tape and Reel; Termination: Gull Wing; ComponentLink1URL: https://www.ckswitches.com/media/2567/pts647.pdf?src-supplier=Digi-Key; ComponentLink1Description: https://www.ckswitches.com/media/2567/pts647.pdf?src-supplier=Digi-Key; Supplier Part Number 1: PTS647SK38SMTR2LFSCT-ND
footprint PTS647SK38SMTR2LFS
pins: 1, 2, 3, 4

## R_small
designator R?  value 0  (hidden comment: *)
pins: 1, 2

## RMCF0402FT1K00
designator R?  Resistance: 1kΩ  Size Code: 0402  (hidden comment: *)
1 kΩ, 0402 Chip resistor; Manufacturer: Stackpole Electronics; Manufacturer Part Number: RMCF0402FT1K00; Tolerance: 1%; Power Rating: 63mW; Temperature Coefficient: 100ppm/°C; RoHS: Yes; Category: Chip SMD Resistors; Stock 1: 304945; Pricing 1: 1=0.00420, 500=0.00300, 1500=0.00290, 2500=0.00280, 5000=0.00270 (USD); Mount: Surface Mount; Case/Package: 0402; Case Code (Metric): 1005; Case Code (Imperial): 0402; Contact Plating: Tin,Matte; Min Operating Temperature: -55°C; Max Operating Temperature: 155°C; Packaging: Tape and Reel; Resistor Type: Thick Film; Number of Terminations: 2; Max Power Dissipation: 63mW; Features: Automotive AEC-Q200; Series: RMCF; Construction: Rectangular; Length: 1mm; Width: 0.02inch; Height: 0.016inch; Depth: 0.5mm; Radiation Hardening: No; Military Standard: Not; Lead Free: Lead Free; RoHS Compliant: Yes; ComponentLink1URL: https://datasheet.ciiva.com/15193/getdatasheetpartid-365385-15193418.pdf?src-supplier=Verical; ComponentLink1Description: https://datasheet.ciiva.com/15193/getdatasheetpartid-365385-15193418.pdf?src-supplier=Verical; ComponentLink2URL: https://datasheet.ciiva.com/24336/sei-rmcp-24336266.pdf?src-supplier=Onlinecomponents.com; ComponentLink2Description: https://datasheet.ciiva.com/24336/sei-rmcp-24336266.pdf?src-supplier=Onlinecomponents.com; Supplier 1: Digi-Key; Supplier Part Number 1: RMCF0402FT1K00CT-ND
footprint 0402_resistor (0402 chip resistor)
pins: 1, 2

## RMCF0402FT2K20
designator R?  Resistance: 2.2kΩ  Size Code: 0402
2.2 kΩ, 0402 Chip resistor; Manufacturer: Stackpole Electronics; Manufacturer Part Number: RMCF0402FT2K20; Tolerance: 1%; Rated Power Dissipation (P): 63mW; Rated Temperature: 70°C; Temperature Coefficient: 100ppm/°C; Working Voltage: 50V; Package Height: 0.3mm; Package Length: 1mm; Package Width: 0.5mm; Reference Standard: AEC-Q200; Supplier 1: Digi-Key; Supplier Part Number 1: RMCF0402FT2K20CT-ND; RoHS: Yes; Category: Chip SMD Resistors; Stock 1: 613625; Pricing 1: 1=0.10000, 10=0.01500, 100=0.00610, 1000=0.00274, 2500=0.00238, 5000=0.00197 (USD); Mount: Surface Mount; Number of Pins: 2; Package Shape: Rectangular; Terminal Finish: Nickel; Min Operating Temperature: -55°C; Max Operating Temperature: 155°C; JESD-609 Code: e3; Resistor Type: FIXED RESISTOR; Construction: Rectangular; Package Style: SMTMeter; Packaging: Tape and Reel; Technology: METAL GLAZE/THICK FILM; Termination: Wraparound; REACH SVHC: Yes; RoHS Compliant: Yes; ComponentLink1URL: https://datasheet.ciiva.com:443/pdfs/VipMasterIC/IC/SEIE/SEIE-S-A0009541969/SEIE-S-A0009541969-1.pdf?src-supplier=IHS+Markit; ComponentLink1Description: https://datasheet.ciiva.com:443/pdfs/VipMasterIC/IC/SEIE/SEIE-S-A0009541969/SEIE-S-A0009541969-1.pdf?src-supplier=IHS+Markit; ComponentLink2URL: https://datasheet.ciiva.com/15193/getdatasheetpartid-559885-15193421.pdf?src-supplier=Verical; ComponentLink2Description: https://datasheet.ciiva.com/15193/getdatasheetpartid-559885-15193421.pdf?src-supplier=Verical
footprint 0402_resistor (Chip Resistor, 2-Leads, Body 1.00x0.50mm, IPC Medium Density)
pins: 1, 2

## RMCF0402FT5K10
designator R?  Resistance: 5.1kΩ  Size Code: 0402  (hidden comment: *)
5.1k Ω, 0402 Chip resistor; Manufacturer: Stackpole Electronics; Manufacturer Part Number: RMCF0402FT27R0; Tolerance: 1%; Rated Power Dissipation (P): 63mW; Rated Temperature: 70°C; Temperature Coefficient: 100ppm/°C; Working Voltage: 50V; Package Height: 0.3mm; Package Length: 1mm; Package Width: 0.5mm; Reference Standard: AEC-Q200; RoHS: Yes; Category: Chip SMD Resistors; Stock 1: 3710; Pricing 1: 1=0.10000, 10=0.01500, 100=0.00610, 1000=0.00274, 2500=0.00238, 5000=0.00197 (USD); Mount: Surface Mount; Number of Pins: 2; Package Shape: Rectangular; Terminal Finish: Nickel; Min Operating Temperature: -55°C; Max Operating Temperature: 155°C; JESD-609 Code: e3; Resistor Type: FIXED RESISTOR; Construction: Rectangular; Package Style: SMTMeter; Packaging: Tape and Reel; Technology: METAL GLAZE/THICK FILM; Termination: Wraparound; REACH SVHC: Yes; RoHS Compliant: Yes
footprint 0402_resistor (Chip Resistor, 2-Leads, Body 1.00x0.50mm, IPC Medium Density)
pins: 1, 2

## RMCF0402FT5K60_1
designator R?  Resistance: 5.6kΩ  Size Code: 0402  (hidden comment: *)
5.6k Ω, 0402 Chip resistor; Manufacturer: Stackpole Electronics; Manufacturer Part Number: RMCF0402FT27R0; Tolerance: 1%; Rated Power Dissipation (P): 63mW; Rated Temperature: 70°C; Temperature Coefficient: 100ppm/°C; Working Voltage: 50V; Package Height: 0.3mm; Package Length: 1mm; Package Width: 0.5mm; Reference Standard: AEC-Q200; RoHS: Yes; Category: Chip SMD Resistors; Stock 1: 3710; Pricing 1: 1=0.10000, 10=0.01500, 100=0.00610, 1000=0.00274, 2500=0.00238, 5000=0.00197 (USD); Mount: Surface Mount; Number of Pins: 2; Package Shape: Rectangular; Terminal Finish: Nickel; Min Operating Temperature: -55°C; Max Operating Temperature: 155°C; JESD-609 Code: e3; Resistor Type: FIXED RESISTOR; Construction: Rectangular; Package Style: SMTMeter; Packaging: Tape and Reel; Technology: METAL GLAZE/THICK FILM; Termination: Wraparound; REACH SVHC: Yes; RoHS Compliant: Yes
footprint 0402_resistor (Chip Resistor, 2-Leads, Body 1.00x0.50mm, IPC Medium Density)
pins: 1, 2

## RMCF0402FT10K0
designator R?  Case Code (Imperial): 0402  Resistance: 10kΩ  (hidden comment: *)
10 kΩ, 0402 Chip resistor; Manufacturer: Stackpole Electronics; Manufacturer Part Number: RMCF0402FT10K0; Tolerance: 1%; Power Rating: 62.5mW; Temperature Coefficient: 100ppm/°C; Max Power Dissipation: 63mW; Supplier 1: Digi-Key; RoHS: Yes; Category: Chip SMD Resistors; Stock 1: 7219214; Pricing 1: 1=0.10000, 10=0.01300, 100=0.00530, 1000=0.00239, 2500=0.00207, 5000=0.00171 (USD); Mount: Surface Mount; Case/Package: 0402; Case Code (Metric): 1005; Contact Plating: Tin,Matte; Size Code: 0402; Min Operating Temperature: -55°C; Max Operating Temperature: 155°C; Packaging: Tape and Reel; Resistor Type: Thick Film; Number of Terminations: 2; Features: Automotive AEC-Q200; Series: RMCF; Construction: Rectangular; Length: 1mm; Width: 0.02inch; Height: 0.016inch; Depth: 0.5mm; Radiation Hardening: No; Military Standard: Not; Lead Free: Lead Free; RoHS Compliant: Yes; ComponentLink1URL: https://datasheet.ciiva.com/24341/sei-rmcp-24341800.pdf?src-supplier=Onlinecomponents.com; ComponentLink1Description: https://datasheet.ciiva.com/24341/sei-rmcp-24341800.pdf?src-supplier=Onlinecomponents.com; Supplier Part Number 1: RMCF0402FT10K0CT-ND
footprint 0402_resistor (0402 chip resistor)
pins: 1, 2

## RMCF0402FT27R0
designator R?  Resistance: 27Ω  Size Code: 0402  (hidden comment: *)
27 Ω, 0402 Chip resistor; Manufacturer: Stackpole Electronics; Manufacturer Part Number: RMCF0402FT27R0; Tolerance: 1%; Rated Power Dissipation (P): 63mW; Rated Temperature: 70°C; Temperature Coefficient: 100ppm/°C; Working Voltage: 50V; Package Height: 0.3mm; Package Length: 1mm; Package Width: 0.5mm; Reference Standard: AEC-Q200; Supplier 1: Digi-Key; Supplier Part Number 1: RMCF0402FT27R0CT-ND; RoHS: Yes; Category: Chip SMD Resistors; Stock 1: 3710; Pricing 1: 1=0.10000, 10=0.01500, 100=0.00610, 1000=0.00274, 2500=0.00238, 5000=0.00197 (USD); Mount: Surface Mount; Number of Pins: 2; Package Shape: Rectangular; Terminal Finish: Nickel; Min Operating Temperature: -55°C; Max Operating Temperature: 155°C; JESD-609 Code: e3; Resistor Type: FIXED RESISTOR; Construction: Rectangular; Package Style: SMTMeter; Packaging: Tape and Reel; Technology: METAL GLAZE/THICK FILM; Termination: Wraparound; REACH SVHC: Yes; RoHS Compliant: Yes; ComponentLink1URL: https://datasheet.ciiva.com:443/pdfs/VipMasterIC/IC/SEIE/SEIE-S-A0009541969/SEIE-S-A0009541969-1.pdf?src-supplier=IHS+Markit; ComponentLink1Description: https://datasheet.ciiva.com:443/pdfs/VipMasterIC/IC/SEIE/SEIE-S-A0009541969/SEIE-S-A0009541969-1.pdf?src-supplier=IHS+Markit; ComponentLink2URL: https://www.seielect.com/catalog/SEI-RMCF_RMCP.pdf?src-supplier=Avnet; ComponentLink2Description: https://www.seielect.com/catalog/SEI-RMCF_RMCP.pdf?src-supplier=Avnet; ComponentLink3URL: https://www.seielect.com/catalog/sei-rmcf_rmcp.pdf?src-supplier=Digi-Key; ComponentLink3Description: https://www.seielect.com/catalog/sei-rmcf_rmcp.pdf?src-supplier=Digi-Key; ComponentLink4URL: http://www.seielect.com/Catalog/SEI-RMCF_RMCP.pdf?src-supplier=Digi-Key; ComponentLink4Description: http://www.seielect.com/Catalog/SEI-RMCF_RMCP.pdf?src-supplier=Digi-Key
footprint 0402_resistor (Chip Resistor, 2-Leads, Body 1.00x0.50mm, IPC Medium Density)
pins: 1, 2

## RV121SF-30-009J-B5K-00K
designator VR?  Resistance: 5 kΩ  Manufacturer Part Number: RV121SF-30-009J-B5K-00K
5 kΩ Linear potentiomer with switch
footprint RV121SF-30-009J-B5K-00K (Potentiometer with switch)
pins: 1 CCW (in), 2 Center (in), 3 CW (in), 4 SW (in), 5 SW (in)

## SPM0687LR5H-1
designator MIC?, comment Microphone  Manufacturer Part Number: SPM0687LR5H-1
Analog MEMS microphone; Manufacturer: Knowles; Shape: Rectangular; Operating Supply Current: 285uA; Supplier 1: Digi-Key; Stock 1: 8303; Pricing 1: 1=1.91, 10=1.589, 25=1.4692, 50=1.3814, 100=1.297, 500=1.1134, 1000=1.0628 (USD); Output Type: Analog; Packaging: Cut Tape; Termination: Solder; ComponentLink1URL: https://media.digikey.com/pdf/Data%20Sheets/Knowles%20Acoustics%20PDFs/SPM0687LR5H-1.pdf?src-supplier=Digi-Key; ComponentLink1Description: https://media.digikey.com/pdf/Data%20Sheets/Knowles%20Acoustics%20PDFs/SPM0687LR5H-1.pdf?src-supplier=Digi-Key; ComponentLink2URL: https://media.digikey.com/pdf/Data%20Sheets/Knowles%20Acoustics%20PDFs/SPM0687LR5H-1_DS.pdf?src-supplier=Digi-Key; ComponentLink2Description: https://media.digikey.com/pdf/Data%20Sheets/Knowles%20Acoustics%20PDFs/SPM0687LR5H-1_DS.pdf?src-supplier=Digi-Key; Supplier Part Number 1: 423-1427-1-ND
footprint SPM0687LR5H-1 (MEMS Microphone)
pins: 1 OUT+ (out), 2 GND (power), 3 GND (power), 4 GND (power), 5 VDD (power), 6 OUT- (out)

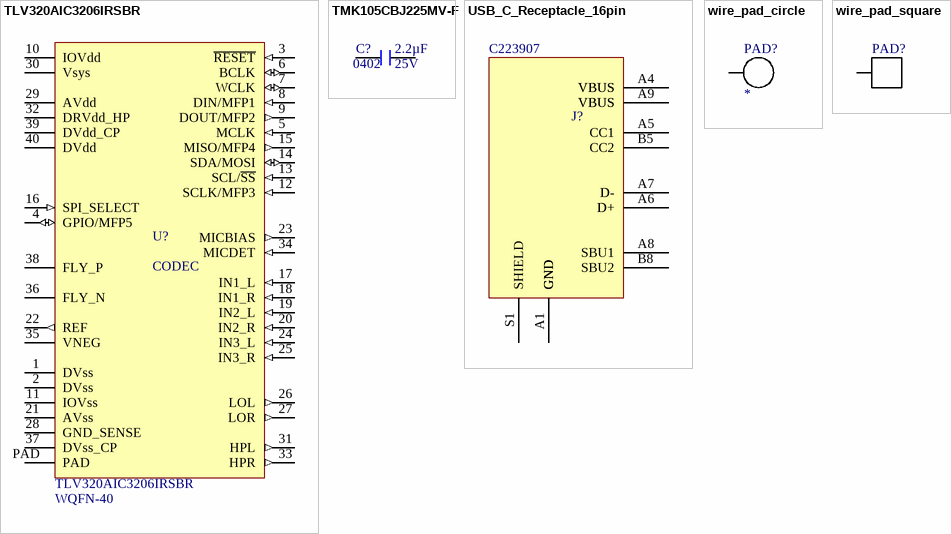
[diagram p1: symbols TLV320AIC3206IRSBR to wire_pad_square]

## TLV320AIC3206IRSBR
designator U?, comment CODEC  Manufacturer Part Number: TLV320AIC3206IRSBR  Package: WQFN-40
Stereo audio CODEC, WQFN-40; Manufacturer: Texas Instruments; Interface: I2C,SPI,Serial,I2S,2-Wire; Operating Supply Voltage: 1.8V; Max Supply Voltage: 1.95V; Resolution: 32b; Number of A/D Converters: 2; Sampling Rate: 192KS/s; Signal to Noise Ratio (SNR): 93dB; Power Consumption: 5mW; Number of Analog Inputs: 6; Number of Analog Outputs: 4; Supplier 1: Digi-Key; Stock 1: 2633; Pricing 1: 1=6.12, 10=5.495, 25=5.1944, 100=4.5019, 250=4.271, 500=3.8324, 1000=3.6373 (USD); Mount: Surface Mount; Number of Pins: 40; Min Operating Temperature: -40°C; Max Operating Temperature: 85°C; Package Quantity: 3000; Packaging: Tape and Reel; Number of D/A Converters: 2; Number of ADC Channels: 2; Number of DAC Channels: 2; Type: General Purpose; Series: PowerTune™; Radiation Hardening: No; Lead Free: Lead Free; RoHS Compliant: Yes; ComponentLink1URL: http://www.ti.com/lit/ds/symlink/tlv320aic3206.pdf?src-supplier=Digi-Key; ComponentLink1Description: http://www.ti.com/lit/ds/symlink/tlv320aic3206.pdf?src-supplier=Digi-Key; Supplier Part Number 1: 296-41705-1-ND
footprint QFN-40
pins: 1 DVss (power), 2 DVss (power), 3 ~{RESET} (in), 4 GPIO/MFP5 (io), 5 MCLK (in), 6 BCLK (io), 7 WCLK (io), 8 DIN/MFP1 (in), 9 DOUT/MFP2 (out), 10 IOVdd (power), 11 IOVss (power), 12 SCLK/MFP3 (in), 13 SCL/~{SS} (in), 14 SDA/MOSI (io), 15 MISO/MFP4 (out), 16 SPI_SELECT (in), 17 IN1_L (in), 18 IN1_R (in), 19 IN2_L (in), 20 IN2_R (in), 21 AVss (power), 22 REF (out), 23 MICBIAS (out), 24 IN3_L (in), 25 IN3_R (in), 26 LOL (out), 27 LOR (out), 28 GND_SENSE (power), 29 AVdd (power), 30 Vsys (power), 31 HPL (out), 32 DRVdd_HP (power), 33 HPR (out), 34 MICDET (in), 35 VNEG (power), 36 FLY_N (power), 37 DVss_CP (power), 38 FLY_P (power), 39 DVdd_CP (power), 40 DVdd (power), PAD

## TMK105CBJ225MV-F
designator C?  Size Code: 0402  Capacitance: 2.2µF  Rated DC Voltage (URdc): 25V  (hidden comment: *)
2.2 µF, 25 V, X5R, 0402 Chip Capacitor; Manufacturer: Taiyo Yuden; Manufacturer Part Number: TMK105CBJ225MV-F; Dielectric Material: Ceramic; Multilayer: Yes; Negative Tolerance: 20%; Supplier 1: Digi-Key; Supplier Part Number 1: 587-6022-1-ND; RoHS: Yes; Category: Ceramic Capacitors; Stock 1: 6102; Pricing 1: 1=0.22000, 10=0.15600, 50=0.08880, 100=0.07350, 500=0.05156, 1000=0.04269, 2500=0.03973, 5000=0.03635 (USD); Mount: Surface Mount; Number of Pins: 2; Package Shape: Rectangular; Min Operating Temperature: -55°C; Max Operating Temperature: 85°C; Capacitor Type: Ceramic; Package Style: SMTMeter; Packaging: Tape and Reel; Positive Tolerance: 20%; Temperature Characteristics Code: X5R; Termination: Wraparound; Length: 1mm; Width: 0.5mm; Height: 0.5mm; REACH SVHC: Yes; RoHS Compliant: Yes; ComponentLink1URL: https://datasheet.ciiva.com:443/pdfs/VipMasterIC/IC/TAIY/TAIY-S-A0009103435/TAIY-S-A0009102688-1.pdf?src-supplier=IHS+Markit; ComponentLink1Description: https://datasheet.ciiva.com:443/pdfs/VipMasterIC/IC/TAIY/TAIY-S-A0009103435/TAIY-S-A0009102688-1.pdf?src-supplier=IHS+Markit; ComponentLink2URL: https://ds.yuden.co.jp/TYCOMPAS/ut/detail?pn=TMK105CBJ225MV-F &amp;u=M&src-supplier=Digi-Key; ComponentLink2Description: https://ds.yuden.co.jp/TYCOMPAS/ut/detail?pn=TMK105CBJ225MV-F &amp;u=M&src-supplier=Digi-Key; ComponentLink3URL: http://ds.yuden.co.jp/TYCOMPAS/ut/detail.do?productNo=TMK105CBJ225MV-F&amp;fileName=TMK105CBJ225MV-F_SS&amp;mode=specSheetDownload&src-supplier=Digi-Key; ComponentLink3Description: http://ds.yuden.co.jp/TYCOMPAS/ut/detail.do?productNo=TMK105CBJ225MV-F&amp;fileName=TMK105CBJ225MV-F_SS&amp;mode=specSheetDownload&src-supplier=Digi-Key
footprint 0402_capacitor (0402 chip capacitor)
pins: 1, 2

## USB_C_Receptacle_16pin
designator J?  Supplier Part Number 1: C223907
Type-C USB2.0 Receptacle; Supplier 1: LCSC
pins: A1 GND (power), A4 VBUS (power), A5 CC1, A6 D+, A7 D-, A8 SBU1, A9 VBUS (power), A12 GND (power), B1 GND (power), B4 VBUS (power), B5 CC2, B6 D+, B7 D-, B8 SBU2, B9 VBUS (power), B12 GND (power), S1 SHIELD (power)

## wire_pad_circle
designator PAD?  (no BOM)
1.5mm circular wire pad
footprint WIRE_PAD_CIRCLE
pins: 1

## wire_pad_square
designator PAD?  (value not drawn)  (no BOM)
1.5mm square wire pad
footprint WIRE_PAD_SQUARE
pins: 1